# Altium footprint library GSM.PcbLib: 20 footprints (part 2 of 2)
Each footprint in its own frame and in the unit in brackets; x right, y up, seen from the top. Pads: shape width x height; smd on the part's side, far side on the other; paste and mask are expansions set on the pad; w line width, h text height; cw(c..) or ccw(c..) is an arc to the next point about the centre after c.
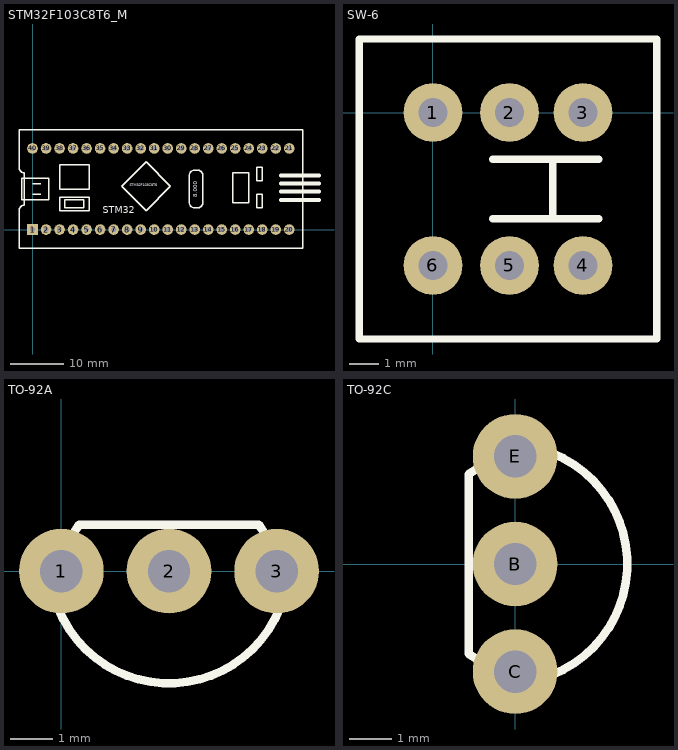
[diagram p1: the footprints below, top view; thin cyan lines are the x and y axes]

## STM32F103C8T6_M [mm]
pads (40):
  rect 2x2 hole 1: 1(0,0)
  round 2 hole 1: 2(2.54,0) 3(5.08,0) 4(7.62,0) 5(10.16,0) 6(12.7,0) 7(15.24,0) 8(17.78,0) 9(20.32,0) 10(22.86,0) 11(25.4,0) 12(27.94,0) 13(30.48,0) 14(33.02,0) 15(35.56,0) 16(38.1,0) 17(40.64,0) 18(43.18,0) 19(45.72,0) 20(48.26,0) 21(48.26,15.24) 22(45.72,15.24) 23(43.18,15.24) 24(40.64,15.24) 25(38.1,15.24) 26(35.56,15.24) 27(33.02,15.24) 28(30.48,15.24) 29(27.94,15.24) 30(25.4,15.24) 31(22.86,15.24) 32(20.32,15.24) 33(17.78,15.24) 34(15.24,15.24) 35(12.7,15.24) 36(10.16,15.24) 37(7.62,15.24) 38(5.08,15.24) 39(2.54,15.24) 40(0,15.24)
Top Overlay:
  lines w0.254: 0,6.604 1.524,6.604 ; 0,8.636 1.524,8.636 ; -2.54,-3.556 50.8,-3.556 50.8,-2.54 50.8,17.78 50.8,18.796 -2.54,18.796 -2.54,11.684 ccw(c-1.524,11.684) -1.524,10.668 -1.524,7.112 -1.524,6.096 -1.524,4.572 ccw(c-1.524,3.556) -2.54,3.556 -2.54,-3.556 ; -2.032,5.588 3.048,5.588 3.048,9.652 -2.032,9.652 -2.032,5.588 ; 5.08,3.556 5.08,6.096 10.668,6.096 10.668,3.556 5.08,3.556 ; 5.08,7.62 5.08,11.684 5.08,12.192 10.668,12.192 10.668,7.62 5.08,7.62 ; 6.096,4.064 6.096,5.588 9.652,5.588 9.652,4.064 6.096,4.064 ; 16.764,8.128 21.336,12.7 25.908,8.128 21.336,3.556 16.764,8.128 ; 29.464,5.08 ccw(c30.48,5.08) 30.48,4.064 30.988,4.064 ccw(c30.988,5.08) 32.004,5.08 32.004,10.16 ccw(c30.988,10.16) 30.988,11.176 30.48,11.176 ccw(c30.48,10.16) 29.464,10.16 29.464,5.08 ; 37.592,5.08 40.64,5.08 40.64,10.668 38.1,10.668 37.592,10.668 37.592,5.08 ; 42.164,4.064 42.164,6.604 43.18,6.604 43.18,4.064 42.164,4.064 ; 42.164,9.144 42.164,11.684 43.18,11.684 43.18,9.144 42.164,9.144
  lines w0.762: 46.736,5.588 53.848,5.588 ; 46.736,7.112 53.848,7.112 ; 46.736,8.636 53.848,8.636 ; 46.736,10.16 53.848,10.16
  text "STM32F103C8T6" at 18.288,8.128 h0.51
  text "8.000" at 30.988,6.096 h0.76
  text "STM32" at 13.208,3.048 h1.27

## SW-6 [mm]
pads (6):
  round 2 hole 1: 1(0,0) 2(2.6,0) 3(5.1,0) 4(5.1,-5.2) 5(2.6,-5.2) 6(0,-5.2)
Top Overlay:
  lines w0.254: 2.032,-3.616 5.632,-3.616 ; 2.032,-1.584 5.632,-1.584 ; 4.064,-3.616 4.064,-1.584 ; -2.5,-7.7 -2.5,2.5 7.6,2.5 7.6,-7.7 -2.5,-7.7

## TO-92A [mm]
pads (3):
  round 2 hole 1: 1(0,0) 2(2.54,0) 3(5.08,0)
Top Overlay:
  lines w0.2: -0.07,-0.885 ccw(c2.54,0.169) 5.15,-0.885 ; 0.277,0.882 0.423,1.101 4.657,1.101 4.803,0.882

## TO-92C [mm]
pads (3):
  round 2 hole 1: B(0,0) C(0,-2.54) E(0,2.54)
Top Overlay:
  lines w0.2: -0.882,-2.263 -1.101,-2.117 -1.101,2.117 -0.882,2.263 ; 0.885,-2.61 ccw(c-0.169,0) 0.885,2.61